# Altium schematic symbol library MCU_Microchip_PIC24.SchLib: 7 symbols
Pins are listed as number, name and electrical type; pins without a type are passive.

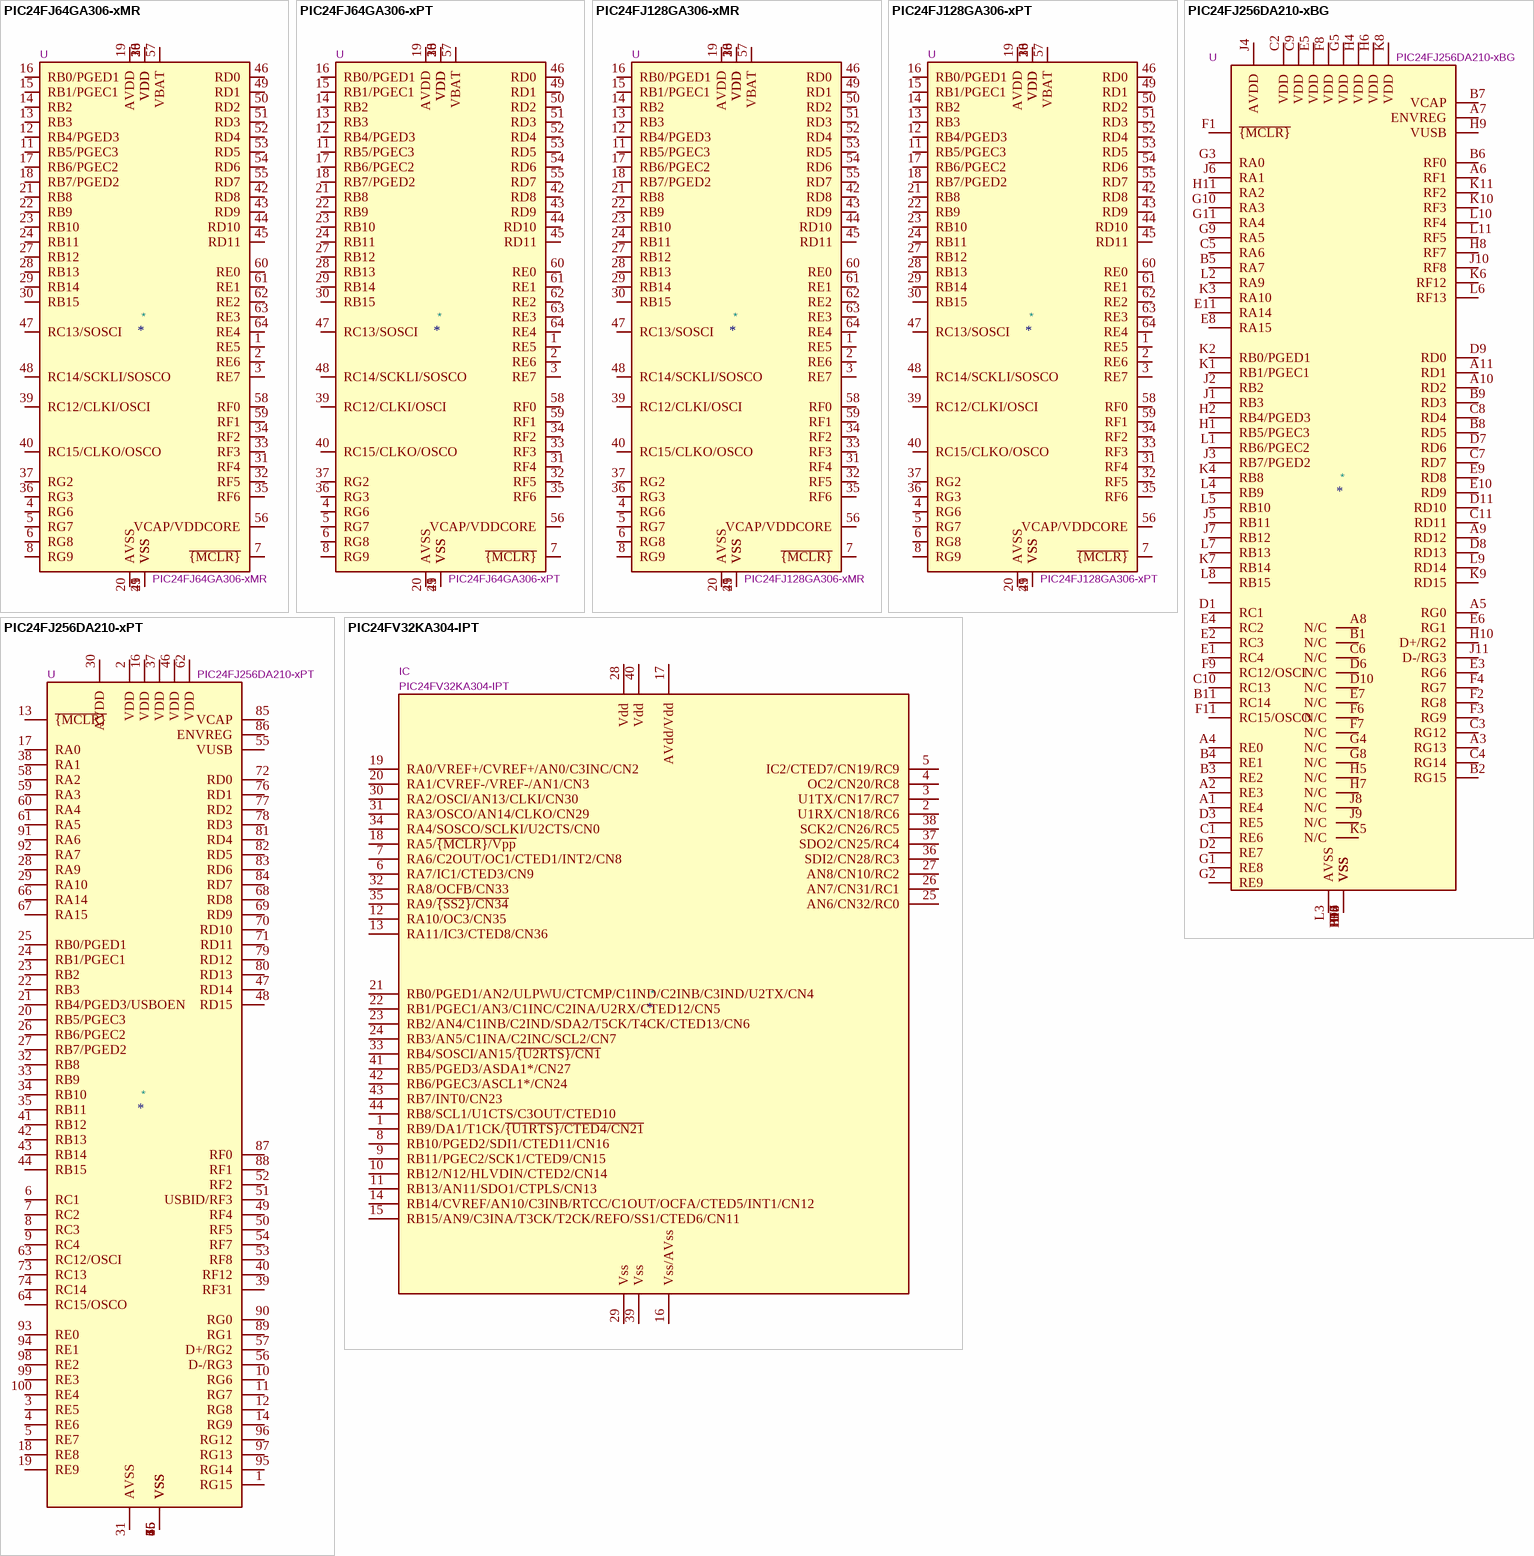
[diagram p0: symbols PIC24FJ64GA306-xMR to PIC24FV32KA304-IPT]

## PIC24FJ64GA306-xMR
designator *  value PIC24FJ64GA306-xMR  Reference: U
64K Flash, 8KB SRAM, LCD controller, QFN-64; ki_keywords: Flash-Based 16-Bit Microcontroller; ki_fp_filters: QFN*1EP*9x9mm*P0.5mm*EP7.15x7.15mm*; Footprint: Package_DFN_QFN:QFN-64-1EP_9x9mm_P0.5mm_EP7.15x7.15mm; Datasheet: https://ww1.microchip.com/downloads/aemDocuments/documents/OTH/ProductDocuments/DataSheets/30009996g.pdf; Description_: 64K Flash, 8KB SRAM, LCD controller, QFN-64
pins: 1 RE5, 2 RE6, 3 RE7, 4 RG6, 5 RG7, 6 RG8, 7 ~{{MCLR}}, 8 RG9, 9 VSS, 10 VDD, 11 RB5/PGEC3, 12 RB4/PGED3, 13 RB3, 14 RB2, 15 RB1/PGEC1, 16 RB0/PGED1, 17 RB6/PGEC2, 18 RB7/PGED2, 19 AVDD, 20 AVSS, 21 RB8, 22 RB9, 23 RB10, 24 RB11, 25 VSS, 26 VDD, 27 RB12, 28 RB13, 29 RB14, 30 RB15, 31 RF4, 32 RF5, 33 RF3, 34 RF2, 35 RF6, 36 RG3, 37 RG2, 38 VDD, 39 RC12/CLKI/OSCI, 40 RC15/CLKO/OSCO, 41 VSS, 42 RD8, 43 RD9, 44 RD10, 45 RD11, 46 RD0, 47 RC13/SOSCI, 48 RC14/SCKLI/SOSCO, 49 RD1, 50 RD2, 51 RD3, 52 RD4, 53 RD5, 54 RD6, 55 RD7, 56 VCAP/VDDCORE, 57 VBAT, 58 RF0, 59 RF1, 60 RE0, 61 RE1, 62 RE2, 63 RE3, 64 RE4

## PIC24FJ64GA306-xPT
designator *  value PIC24FJ64GA306-xPT  Reference: U
64K Flash, 8KB SRAM, LCD controller, TQFP-64; ki_keywords: Flash-Based 16-Bit Microcontroller; ki_fp_filters: TQFP*10x10mm*P0.5mm*; Footprint: Package_QFP:TQFP-64_10x10mm_P0.5mm; Datasheet: https://ww1.microchip.com/downloads/aemDocuments/documents/OTH/ProductDocuments/DataSheets/30009996g.pdf; Description_: 64K Flash, 8KB SRAM, LCD controller, TQFP-64
pins: 1 RE5, 2 RE6, 3 RE7, 4 RG6, 5 RG7, 6 RG8, 7 ~{{MCLR}}, 8 RG9, 9 VSS, 10 VDD, 11 RB5/PGEC3, 12 RB4/PGED3, 13 RB3, 14 RB2, 15 RB1/PGEC1, 16 RB0/PGED1, 17 RB6/PGEC2, 18 RB7/PGED2, 19 AVDD, 20 AVSS, 21 RB8, 22 RB9, 23 RB10, 24 RB11, 25 VSS, 26 VDD, 27 RB12, 28 RB13, 29 RB14, 30 RB15, 31 RF4, 32 RF5, 33 RF3, 34 RF2, 35 RF6, 36 RG3, 37 RG2, 38 VDD, 39 RC12/CLKI/OSCI, 40 RC15/CLKO/OSCO, 41 VSS, 42 RD8, 43 RD9, 44 RD10, 45 RD11, 46 RD0, 47 RC13/SOSCI, 48 RC14/SCKLI/SOSCO, 49 RD1, 50 RD2, 51 RD3, 52 RD4, 53 RD5, 54 RD6, 55 RD7, 56 VCAP/VDDCORE, 57 VBAT, 58 RF0, 59 RF1, 60 RE0, 61 RE1, 62 RE2, 63 RE3, 64 RE4

## PIC24FJ128GA306-xMR
designator *  value PIC24FJ128GA306-xMR  Reference: U
128K Flash, 8KB SRAM, LCD controller, QFN-64; ki_keywords: Flash-Based 16-Bit Microcontroller; ki_fp_filters: QFN*1EP*9x9mm*P0.5mm*EP7.15x7.15mm*; Footprint: Package_DFN_QFN:QFN-64-1EP_9x9mm_P0.5mm_EP7.15x7.15mm; Datasheet: https://ww1.microchip.com/downloads/aemDocuments/documents/OTH/ProductDocuments/DataSheets/30009996g.pdf; Description_: 128K Flash, 8KB SRAM, LCD controller, QFN-64
pins: 1 RE5, 2 RE6, 3 RE7, 4 RG6, 5 RG7, 6 RG8, 7 ~{{MCLR}}, 8 RG9, 9 VSS, 10 VDD, 11 RB5/PGEC3, 12 RB4/PGED3, 13 RB3, 14 RB2, 15 RB1/PGEC1, 16 RB0/PGED1, 17 RB6/PGEC2, 18 RB7/PGED2, 19 AVDD, 20 AVSS, 21 RB8, 22 RB9, 23 RB10, 24 RB11, 25 VSS, 26 VDD, 27 RB12, 28 RB13, 29 RB14, 30 RB15, 31 RF4, 32 RF5, 33 RF3, 34 RF2, 35 RF6, 36 RG3, 37 RG2, 38 VDD, 39 RC12/CLKI/OSCI, 40 RC15/CLKO/OSCO, 41 VSS, 42 RD8, 43 RD9, 44 RD10, 45 RD11, 46 RD0, 47 RC13/SOSCI, 48 RC14/SCKLI/SOSCO, 49 RD1, 50 RD2, 51 RD3, 52 RD4, 53 RD5, 54 RD6, 55 RD7, 56 VCAP/VDDCORE, 57 VBAT, 58 RF0, 59 RF1, 60 RE0, 61 RE1, 62 RE2, 63 RE3, 64 RE4

## PIC24FJ128GA306-xPT
designator *  value PIC24FJ128GA306-xPT  Reference: U
128K Flash, 8KB SRAM, LCD controller, TQFP-64; ki_keywords: Flash-Based 16-Bit Microcontroller; ki_fp_filters: TQFP*10x10mm*P0.5mm*; Footprint: Package_QFP:TQFP-64_10x10mm_P0.5mm; Datasheet: https://ww1.microchip.com/downloads/aemDocuments/documents/OTH/ProductDocuments/DataSheets/30009996g.pdf; Description_: 128K Flash, 8KB SRAM, LCD controller, TQFP-64
pins: 1 RE5, 2 RE6, 3 RE7, 4 RG6, 5 RG7, 6 RG8, 7 ~{{MCLR}}, 8 RG9, 9 VSS, 10 VDD, 11 RB5/PGEC3, 12 RB4/PGED3, 13 RB3, 14 RB2, 15 RB1/PGEC1, 16 RB0/PGED1, 17 RB6/PGEC2, 18 RB7/PGED2, 19 AVDD, 20 AVSS, 21 RB8, 22 RB9, 23 RB10, 24 RB11, 25 VSS, 26 VDD, 27 RB12, 28 RB13, 29 RB14, 30 RB15, 31 RF4, 32 RF5, 33 RF3, 34 RF2, 35 RF6, 36 RG3, 37 RG2, 38 VDD, 39 RC12/CLKI/OSCI, 40 RC15/CLKO/OSCO, 41 VSS, 42 RD8, 43 RD9, 44 RD10, 45 RD11, 46 RD0, 47 RC13/SOSCI, 48 RC14/SCKLI/SOSCO, 49 RD1, 50 RD2, 51 RD3, 52 RD4, 53 RD5, 54 RD6, 55 RD7, 56 VCAP/VDDCORE, 57 VBAT, 58 RF0, 59 RF1, 60 RE0, 61 RE1, 62 RE2, 63 RE3, 64 RE4

## PIC24FJ256DA210-xBG
designator *  value PIC24FJ256DA210-xBG  Reference: U
256K Flash, 96KB SRAM, Graphic controller, USB, BGA-121; ki_keywords: Flash-Based 16-Bit Microcontroller; ki_fp_filters: XBGA*10x10mm*Layout11x11*P0.8mm*; Footprint: Package_BGA:XBGA-121_10x10mm_Layout11x11_P0.8mm; Datasheet: http://ww1.microchip.com/downloads/en/DeviceDoc/39969b.pdf; Description_: 256K Flash, 96KB SRAM, Graphic controller, USB, BGA-121
pins: A1 RE4, A2 RE3, A3 RG13, A4 RE0, A5 RG0, A6 RF1, A7 ENVREG, A8 N/C, A9 RD12, A10 RD2, A11 RD1, B1 N/C, B2 RG15, B3 RE2, B4 RE1, B5 RA7, B6 RF0, B7 VCAP, B8 RD5, B9 RD3, B10 VSS, B11 RC14, C1 RE6, C2 VDD, C3 RG12, C4 RG14, C5 RA6, C6 N/C, C7 RD7, C8 RD4, C9 VDD, C10 RC13, C11 RD11, D1 RC1, D2 RE7, D3 RE5, D4 VSS, D5 VSS, D6 N/C, D7 RD6, D8 RD13, D9 RD0, D10 N/C, D11 RD10, E1 RC4, E2 RC3, E3 RG6, E4 RC2, E5 VDD, E6 RG1, E7 N/C, E8 RA15, E9 RD8, E10 RD9, E11 RA14, F1 ~{{MCLR}}, F2 RG8, F3 RG9, F4 RG7, F5 VSS, F6 N/C, F7 N/C, F8 VDD, F9 RC12/OSCI, F10 VSS, F11 RC15/OSCO, G1 RE8, G2 RE9, G3 RA0, G4 N/C, G5 VDD, G6 VSS, G7 VSS, G8 N/C, G9 RA5, G10 RA3, G11 RA4, H1 RB5/PGEC3, H2 RB4/PGED3, H3 VSS, H4 VDD, H5 N/C, H6 VDD, H7 N/C, H8 RF7, H9 VUSB, H10 D+/RG2, H11 RA2, J1 RB3, J2 RB2, J3 RB7/PGED2, J4 AVDD, J5 RB11, J6 RA1, J7 RB12, J8 N/C, J9 N/C, J10 RF8, J11 D-/RG3, K1 RB1/PGEC1, K2 RB0/PGED1, K3 RA10, K4 RB8, K5 N/C, K6 RF12, K7 RB14, K8 VDD, K9 RD15, K10 RF3, K11 RF2, L1 RB6/PGEC2, L2 RA9, L3 AVSS, L4 RB9, L5 RB10, L6 RF13, L7 RB13, L8 RB15, L9 RD14, L10 RF4, L11 RF5

## PIC24FJ256DA210-xPT
designator *  value PIC24FJ256DA210-xPT  Reference: U
256K Flash, 96KB SRAM, Graphic controller, USB, TQFP-100; ki_keywords: Flash-Based 16-Bit Microcontroller; ki_fp_filters: TQFP*12x12mm*P0.4mm*; Footprint: Package_QFP:TQFP-100_12x12mm_P0.4mm; Datasheet: http://ww1.microchip.com/downloads/en/DeviceDoc/39969b.pdf; Description_: 256K Flash, 96KB SRAM, Graphic controller, USB, TQFP-100
pins: 1 RG15, 2 VDD, 3 RE5, 4 RE6, 5 RE7, 6 RC1, 7 RC2, 8 RC3, 9 RC4, 10 RG6, 11 RG7, 12 RG8, 13 ~{{MCLR}}, 14 RG9, 15 VSS, 16 VDD, 17 RA0, 18 RE8, 19 RE9, 20 RB5/PGEC3, 21 RB4/PGED3/USBOEN, 22 RB3, 23 RB2, 24 RB1/PGEC1, 25 RB0/PGED1, 26 RB6/PGEC2, 27 RB7/PGED2, 28 RA9, 29 RA10, 30 AVDD, 31 AVSS, 32 RB8, 33 RB9, 34 RB10, 35 RB11, 36 VSS, 37 VDD, 38 RA1, 39 RF31, 40 RF12, 41 RB12, 42 RB13, 43 RB14, 44 RB15, 45 VSS, 46 VDD, 47 RD14, 48 RD15, 49 RF4, 50 RF5, 51 USBID/RF3, 52 RF2, 53 RF8, 54 RF7, 55 VUSB, 56 D-/RG3, 57 D+/RG2, 58 RA2, 59 RA3, 60 RA4, 61 RA5, 62 VDD, 63 RC12/OSCI, 64 RC15/OSCO, 65 VSS, 66 RA14, 67 RA15, 68 RD8, 69 RD9, 70 RD10, 71 RD11, 72 RD0, 73 RC13, 74 RC14, 75 VSS, 76 RD1, 77 RD2, 78 RD3, 79 RD12, 80 RD13, 81 RD4, 82 RD5, 83 RD6, 84 RD7, 85 VCAP, 86 ENVREG, 87 RF0, 88 RF1, 89 RG1, 90 RG0, 91 RA6, 92 RA7, 93 RE0, 94 RE1, 95 RG14, 96 RG12, 97 RG13, 98 RE2, 99 RE3, 100 RE4

## PIC24FV32KA304-IPT
designator *  value PIC24FV32KA304-IPT  Reference: IC
32K Flash, 2048B SRAM, 512B EEPROM, nanoWatt XLP, 12-bit ADC, PWM, RTCC, TQFP44; ki_keywords: Flash-Based 16-Bit Microcontroller; ki_fp_filters: TQFP*10x10mm*P0.8mm*; Footprint: Package_QFP:TQFP-44_10x10mm_P0.8mm; Datasheet: http://ww1.microchip.com/downloads/en/DeviceDoc/39995d.pdf; Description_: 32K Flash, 2048B SRAM, 512B EEPROM, nanoWatt XLP, 12-bit ADC, PWM, RTCC, TQFP44
pins: 1 RB9/DA1/T1CK/~{{U1RTS}/CTED4/CN21}, 2 U1RX/CN18/RC6, 3 U1TX/CN17/RC7, 4 OC2/CN20/RC8, 5 IC2/CTED7/CN19/RC9, 6 RA7/IC1/CTED3/CN9, 7 RA6/C2OUT/OC1/CTED1/INT2/CN8, 8 RB10/PGED2/SDI1/CTED11/CN16, 9 RB11/PGEC2/SCK1/CTED9/CN15, 10 RB12/N12/HLVDIN/CTED2/CN14, 11 RB13/AN11/SDO1/CTPLS/CN13, 12 RA10/OC3/CN35, 13 RA11/IC3/CTED8/CN36, 14 RB14/CVREF/AN10/C3INB/RTCC/C1OUT/OCFA/CTED5/INT1/CN12, 15 RB15/AN9/C3INA/T3CK/T2CK/REFO/SS1/CTED6/CN11, 16 Vss/AVss, 17 AVdd/Vdd, 18 RA5/~{{MCLR}/Vpp}, 19 RA0/VREF+/CVREF+/AN0/C3INC/CN2, 20 RA1/CVREF-/VREF-/AN1/CN3, 21 RB0/PGED1/AN2/ULPWU/CTCMP/C1IND/C2INB/C3IND/U2TX/CN4, 22 RB1/PGEC1/AN3/C1INC/C2INA/U2RX/CTED12/CN5, 23 RB2/AN4/C1INB/C2IND/SDA2/T5CK/T4CK/CTED13/CN6, 24 RB3/AN5/C1INA/C2INC/SCL2/CN7, 25 AN6/CN32/RC0, 26 AN7/CN31/RC1, 27 AN8/CN10/RC2, 28 Vdd, 29 Vss, 30 RA2/OSCI/AN13/CLKI/CN30, 31 RA3/OSCO/AN14/CLKO/CN29, 32 RA8/OCFB/CN33, 33 RB4/SOSCI/AN15/~{{U2RTS}/CN1}, 34 RA4/SOSCO/SCLKI/U2CTS/CN0, 35 RA9/~{{SS2}/CN34}, 36 SDI2/CN28/RC3, 37 SDO2/CN25/RC4, 38 SCK2/CN26/RC5, 39 Vss, 40 Vdd, 41 RB5/PGED3/ASDA1*/CN27, 42 RB6/PGEC3/ASCL1*/CN24, 43 RB7/INT0/CN23, 44 RB8/SCL1/U1CTS/C3OUT/CTED10